# Altium schematic symbol library BTS5215L.SchLib: 1 symbol
Pins are listed as number, name and electrical type; pins without a type are passive.

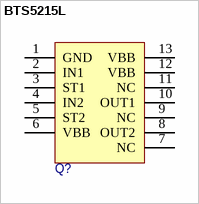
[diagram p0: symbol BTS5215L]

## BTS5215L
designator Q?
pins: 1 GND, 2 IN1, 3 ST1, 4 IN2, 5 ST2, 6 VBB, 7 NC, 8 OUT2, 9 NC, 10 OUT1, 11 NC, 12 VBB, 13 VBB